# Altium schematic symbol library HEADER_1x10.Schlib: 1 symbol
Pins are listed as number, name and electrical type; pins without a type are passive.

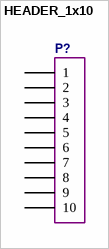
[diagram p0: symbol HEADER_1x10]

## HEADER_1x10
designator P?  (value not drawn)
Header, 10-Pin
pins: 1, 2, 3, 4, 5, 6, 7, 8, 9, 10